# Altium schematic symbol library TL431AIZT.SchLib: 1 symbol
Pins are listed as number, name and electrical type; pins without a type are passive.

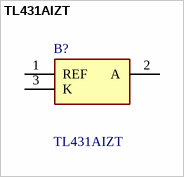
[diagram p0: symbol TL431AIZT]

## TL431AIZT
designator B?
STMicroelectronics TL431AIZT, Adjustable Shunt Voltage Reference 2.495 - 36V, 1%, 3-Pin TO-92; Geometry.Height: 4.4mm; Mouser Part Number: 511-TL431AIZT; Mouser Price/Stock: https://www.mouser.co.uk/ProductDetail/STMicroelectronics/TL431AIZT?qs=20udIUkWrRCrfnM%252B1h%252BEdg%3D%3D; Manufacturer_Name: STMicroelectronics; Manufacturer_Part_Number: TL431AIZT; Datasheet Link: https://www.st.com/resource/en/datasheet/tl431.pdf
footprint TL431AIZT
pins: 1 REF, 2 A, 3 K